# EAGLE library part T50_TRIFILAR_TRANSFORMER (library toroid)
Transformer (having 3 windings) on a T50 Toroid
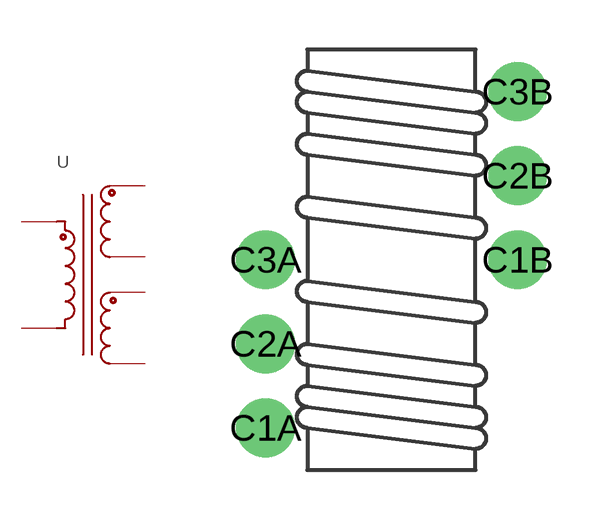
[diagram p0: symbol with the pads of T50_TRIFILAR_TRANSFORMER; footprint T50_TRIFILAR_TRANSFORMER]

Designator prefix -

## T50_TRIFILAR_TRANSFORMER  [T50_TRIFILAR_TRANSFORMER]
C1A  C1A
C1B  C1B
C2A  C2A
C2B  C2B
C3A  C3A
C3B  C3B

## Footprint T50_TRIFILAR_TRANSFORMER (pad centres in mm)
Transformer (having 3 windings) on a T50 Toroid
drill 0.6 pad 1.778: C1A -3.81,-5.08; C1B 3.81,0; C2A -3.81,-2.54; C2B 3.81,2.54; C3A -3.81,0; C3B 3.81,5.08